# EAGLE library part LT1762 (library PowerProducts)
150mA, Low Noise, LDO Micropower Regulators
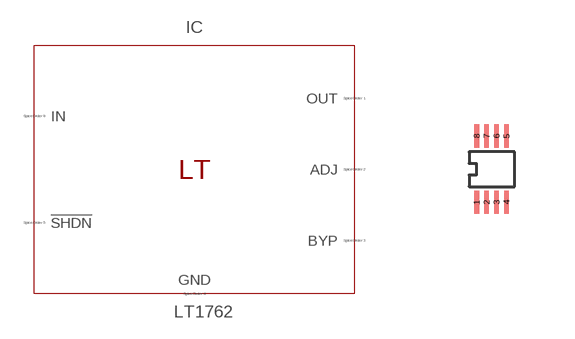
[diagram p2: symbol with the pads of MSOP8(MS8); footprint MSOP8(MS8)]

Designator prefix IC

## LT1762 (SPICEMODEL: LT1762.lib; SPICEPREFIX: X; VALUE2: LT1762)  [MSOP8(MS8)]
1  OUT  pas
2  ADJ  pas
3  BYP  pas
4  GND  pas
5  !SHDN  pas
8  IN  pas

## Footprint MSOP8(MS8) (pad centres in mm)
Package generated from: MSOP8(MS8).asc (!PADS-POWERPCB-V5.0-BASIC! DESIGN DATABASE ASCII FILE 1.0) with :import-pads-powerpcb-v5.ulp Version 1.0.1 at 04.10.2012 14:11:20
smd 0.116 x 0.581: 1 -0.372,-0.827; 2 -0.124,-0.827; 3 0.124,-0.827; 4 0.372,-0.827; 5 0.372,0.827; 6 0.124,0.827; 7 -0.124,0.827; 8 -0.372,0.827